# Altium schematic symbol library Relay.SchLib: 6 symbols
Pins are listed as number, name and electrical type; pins without a type are passive.

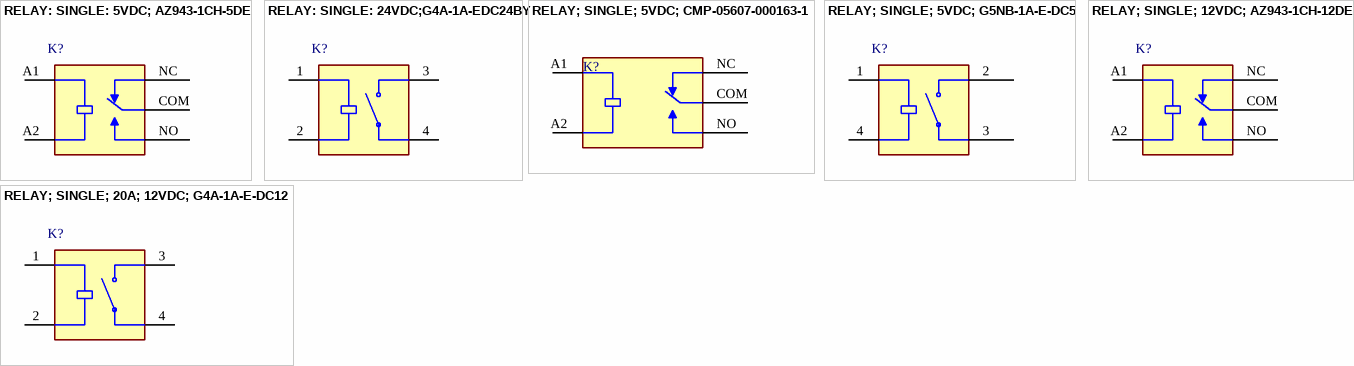
[diagram p0: symbols RELAY: SINGLE: 5VDC; AZ943-1CH-5DE to RELAY; SINGLE; 20A; 12VDC; G4A-1A-E-DC12]

## RELAY: SINGLE: 5VDC; AZ943-1CH-5DE
designator K?, comment General Purpose Relay SPDT (1 Form C) 5VDC Coil Through Hole  (value not drawn)
Power Relay 5VDC 10A SPDT(19.25x15.49x15.95)mm THT; Manufacturer: American Zettler; Manufacturer Part Number: AZ943-1CH-5DE; Contact Resistance: 100mR; Designer: TVBac; Supplier: Future Electronics; Supplier Part Number: 9278706; RoHS: Yes; Category: Power Relays; Stock: 6196; Pricing: 1=0.665, 75=0.645, 250=0.615, 750=0.595, 2500=0.55 (USD); Lead Free: 5697LeadFree; ComponentLink1URL: http://www.onlinecomponents.com/productFiles/mf-AZ/az943.pdf?src-supplier=Onlinecomponents.com; ComponentLink1Description: http://www.onlinecomponents.com/productFiles/mf-AZ/az943.pdf?src-supplier=Onlinecomponents.com; ComponentLink2URL: https://www.alliedelec.com/m/d/1c61ec61dea3d5294db531adeb7ad978.pdf?src-supplier=Allied+Electronics; ComponentLink2Description: https://www.alliedelec.com/m/d/1c61ec61dea3d5294db531adeb7ad978.pdf?src-supplier=Allied+Electronics; ComponentLink3URL: http://www.azettler.com/pdfs/az943.pdf?src-supplier=Future+Electronics; ComponentLink3Description: http://www.azettler.com/pdfs/az943.pdf?src-supplier=Future+Electronics; ComponentLink4URL: https://datasheet.octopart.com/AZ943-1CH-5DE-American-Zettler-datasheet-8326716.pdf?src-supplier=Master+Electronics; ComponentLink4Description: https://datasheet.octopart.com/AZ943-1CH-5DE-American-Zettler-datasheet-8326716.pdf?src-supplier=Master+Electronics; ComponentLink5URL: https://datasheet.octopart.com/AZ943-1CH-5DE-American-Zettler-datasheet-37160806.pdf?src-supplier=Electro+Sonic; ComponentLink5Description: https://datasheet.octopart.com/AZ943-1CH-5DE-American-Zettler-datasheet-37160806.pdf?src-supplier=Electro+Sonic; ComponentLink6Description: Link Digikey; ComponentLink6URL: https://www.digikey.com/en/products/detail/american-zettler/AZ943-1CH-5DE/14307553
footprint RELAY-HxLxW-15.7x19.0x15.3-AZ
pins: A1, A2, COM, NC, NO

## RELAY: SINGLE: 24VDC;G4A-1A-EDC24BY
designator K?, comment General Purpose Relay SPST-NO (1 Form A) 24VDC Coil Through Hole  (value not drawn)
RELAY GEN PURPOSE SPST 20A 24V; Manufacturer: Omron; Manufacturer Part Number: G4A-1A-EDC24BY; Designer: TVBac; Supplier: Digikey; Supplier Part Number: 39-G4A-1A-EDC24-ND; RoHS: Yes; Stock: 238; Pricing: 1=9.56, 10=8.349, 25=7.9112, 50=7.5956, 100=7.2926, 250=6.91052, 450=6.676, 950=6.38939 (USD); ComponentLink1Description: Link Digikey; ComponentLink1URL: https://www.digikey.com/en/products/detail/omron-electronics-inc-emc-div/G4A-1A-E-DC24/1815497
footprint RELAY-HxLxW-23.5x30.5x15.7-OEIEMCD-D
pins: 1 COIL1, 2 COIL2, 3 COM, 4 NO

## RELAY; SINGLE; 5VDC; CMP-05607-000163-1
designator K?, comment JQ1P-5V-F  (value not drawn)
RELAY GEN PURPOSE SPDT 10A 5V; Relay Type: General Purpose; Coil Current: 80mA; Power Rating: 400mW; Operate Time: 20ms; Coil Resistance: 62.5R; Release Time: 10ms; Voltage Rating (AC): 250V; Max Voltage Rating (DC): 110V; Coil Type: Non-Latching; Designer: TVBac; Height: 15.6mm; Mount: Through Hole; Coil Voltage (DC): 5V; Package Quantity: 100; Width: 20mm; Lead Free: Lead Free; Throw Configuration: SPDT; Max Operating Temperature: 70°C; Contact Current Rating: 10A; Termination: PC Pin; Series: JQ; Length: 20mm; Contact Material: Tin; Weight: 7g; RoHS Compliant: Yes; Number of Pins: 5; Depth: 10mm; Packaging: Bulk; Coil Power: 400mW; Max Voltage Rating (AC): 250V; Power Consumption: 400mW; Min Operating Temperature: -40°C; ComponentLink1Description: Link Digikey; ComponentLink1URL: https://www.digikey.com/en/products/detail/panasonic-electric-works/JQ1P-5V-F/1242024?s=N4IgTCBcDaIFIEUCMAFAtAVgGpoGIgF0BfIA
footprint RELAY-JQ1P-10A-HxLxW-15.6x20.5x10.0-PEW
pins: A1, A2, COM, NC, NO

## RELAY; SINGLE; 5VDC; G5NB-1A-E-DC5
designator K?, comment General Purpose Relay SPST-NO (1 Form A) 5VDC Coil Through Hole  (value not drawn)
General Purpose Relay, G5NB Series, Power, Non Latching, SPSTNO, 5 VDC, 3 A RoHS Compliant: Yes; Manufacturer: Omron; Manufacturer Part Number: G5NB-1A-E-DC5; Designer: TVBac; Supplier: Newark; Supplier Part Number: 46W1844; RoHS: Yes; Category: Power Relays; Stock: 49; Pricing: 1=2.26, 10=2.14, 25=1.77, 50=1.68, 100=1.6 (USD); ComponentLink1URL: https://datasheet.ciiva.com/31844/125en-g5nb-31844499.pdf?src-supplier=Onlinecomponents.com; ComponentLink1Description: https://datasheet.ciiva.com/31844/125en-g5nb-31844499.pdf?src-supplier=Onlinecomponents.com; ComponentLink2URL: https://datasheet.ciiva.com/5233/g5nb-e-0911-5233464.pdf?src-supplier=Mouser; ComponentLink2Description: https://datasheet.ciiva.com/5233/g5nb-e-0911-5233464.pdf?src-supplier=Mouser; ComponentLink3URL: https://datasheet.ciiva.com/15723/g5nb-e-0911-15723375.pdf?src-supplier=Onlinecomponents.com; ComponentLink3Description: https://datasheet.ciiva.com/15723/g5nb-e-0911-15723375.pdf?src-supplier=Onlinecomponents.com; ComponentLink4Description: Link Digikey; ComponentLink4URL: https://www.digikey.com/en/products/detail/omron-electronics-inc-emc-div/G5NB-1A-E-DC5/1731471
footprint RELAY-G5NB-1A-HxLxW-15.3x20.5x7.0-OEIDE
pins: 1 A1, 2 COM, 3 NO, 4 A2

## RELAY; SINGLE; 12VDC; AZ943-1CH-12DE
designator K?, comment General Purpose Relay SPDT (1 Form C) 12VDC Coil Through Hole  (value not drawn)
Power Relay 12VDC 10A SPDT(19.25x15.49x15.95)mm THT; Manufacturer: American Zettler; Manufacturer Part Number: AZ943-1CH-12DE; Designer: TVBac; Supplier: Future Electronics; Supplier Part Number: 8953291; RoHS: Yes; Category: Power Relays; Stock: 291799; Pricing: 1=0.885, 75=0.85, 250=0.815, 750=0.79, 2500=0.73 (USD); ComponentLink1URL: https://datasheet.ciiva.com/29335/503611-da-01-en-relais-zettler-az943-1ch-12de-29335831.pdf?src-supplier=Conrad; ComponentLink1Description: https://datasheet.ciiva.com/29335/503611-da-01-en-relais-zettler-az943-1ch-12de-29335831.pdf?src-supplier=Conrad; ComponentLink2URL: https://datasheet.ciiva.com/16507/az943-16507550.pdf?src-supplier=Future+Electronics; ComponentLink2Description: https://datasheet.ciiva.com/16507/az943-16507550.pdf?src-supplier=Future+Electronics; ComponentLink3Description: Link Digikey; ComponentLink3URL: https://www.digikey.com/en/products/detail/american-zettler/AZ943-1CH-12DE/12171590
footprint RELAY-HxLxW-15.7x19.0x15.3-AZ
pins: A1, A2, COM, NC, NO

## RELAY; SINGLE; 20A; 12VDC; G4A-1A-E-DC12
designator K?, comment General Purpose Relay SPST-NO (1 Form A) 12VDC Coil Through Hole  (value not drawn)
Electromechanical Relay 12VDC 160Ohm 20A SPST-NO (30.5x16x33.5)mm THT Power Relay; Manufacturer: Omron; Manufacturer Part Number: G4A-1A-E-DC12; Designer: TVBac; Supplier: Arrow Electronics; Supplier Part Number: G4A-1A-E DC12; RoHS: Yes; Category: Power Relays; Stock: 19; Pricing: 19=4.336 (USD); ComponentLink1URL: https://datasheet.ciiva.com/22829/0900766b8002b917-22829163.pdf?src-supplier=Rs; ComponentLink1Description: https://datasheet.ciiva.com/22829/0900766b8002b917-22829163.pdf?src-supplier=Rs; ComponentLink2Description: Link Digikey; ComponentLink2URL: https://www.digikey.com/en/products/detail/omron-electronics-inc-emc-div/G4A-1A-E-DC12/202598
footprint RELAY-HxLxW-23.5x30.5x15.7-OEIEMCD-D
pins: 1 COIL1, 2 COIL2, 3 COM, 4 NO